# Altium footprint library TDR_PCB_1.PcbLib: 14 footprints
Each footprint in its own frame and in the unit in brackets; x right, y up, seen from the top. Pads: shape width x height; smd on the part's side, far side on the other; paste and mask are expansions set on the pad; w line width, h text height; cw(c..) or ccw(c..) is an arc to the next point about the centre after c.
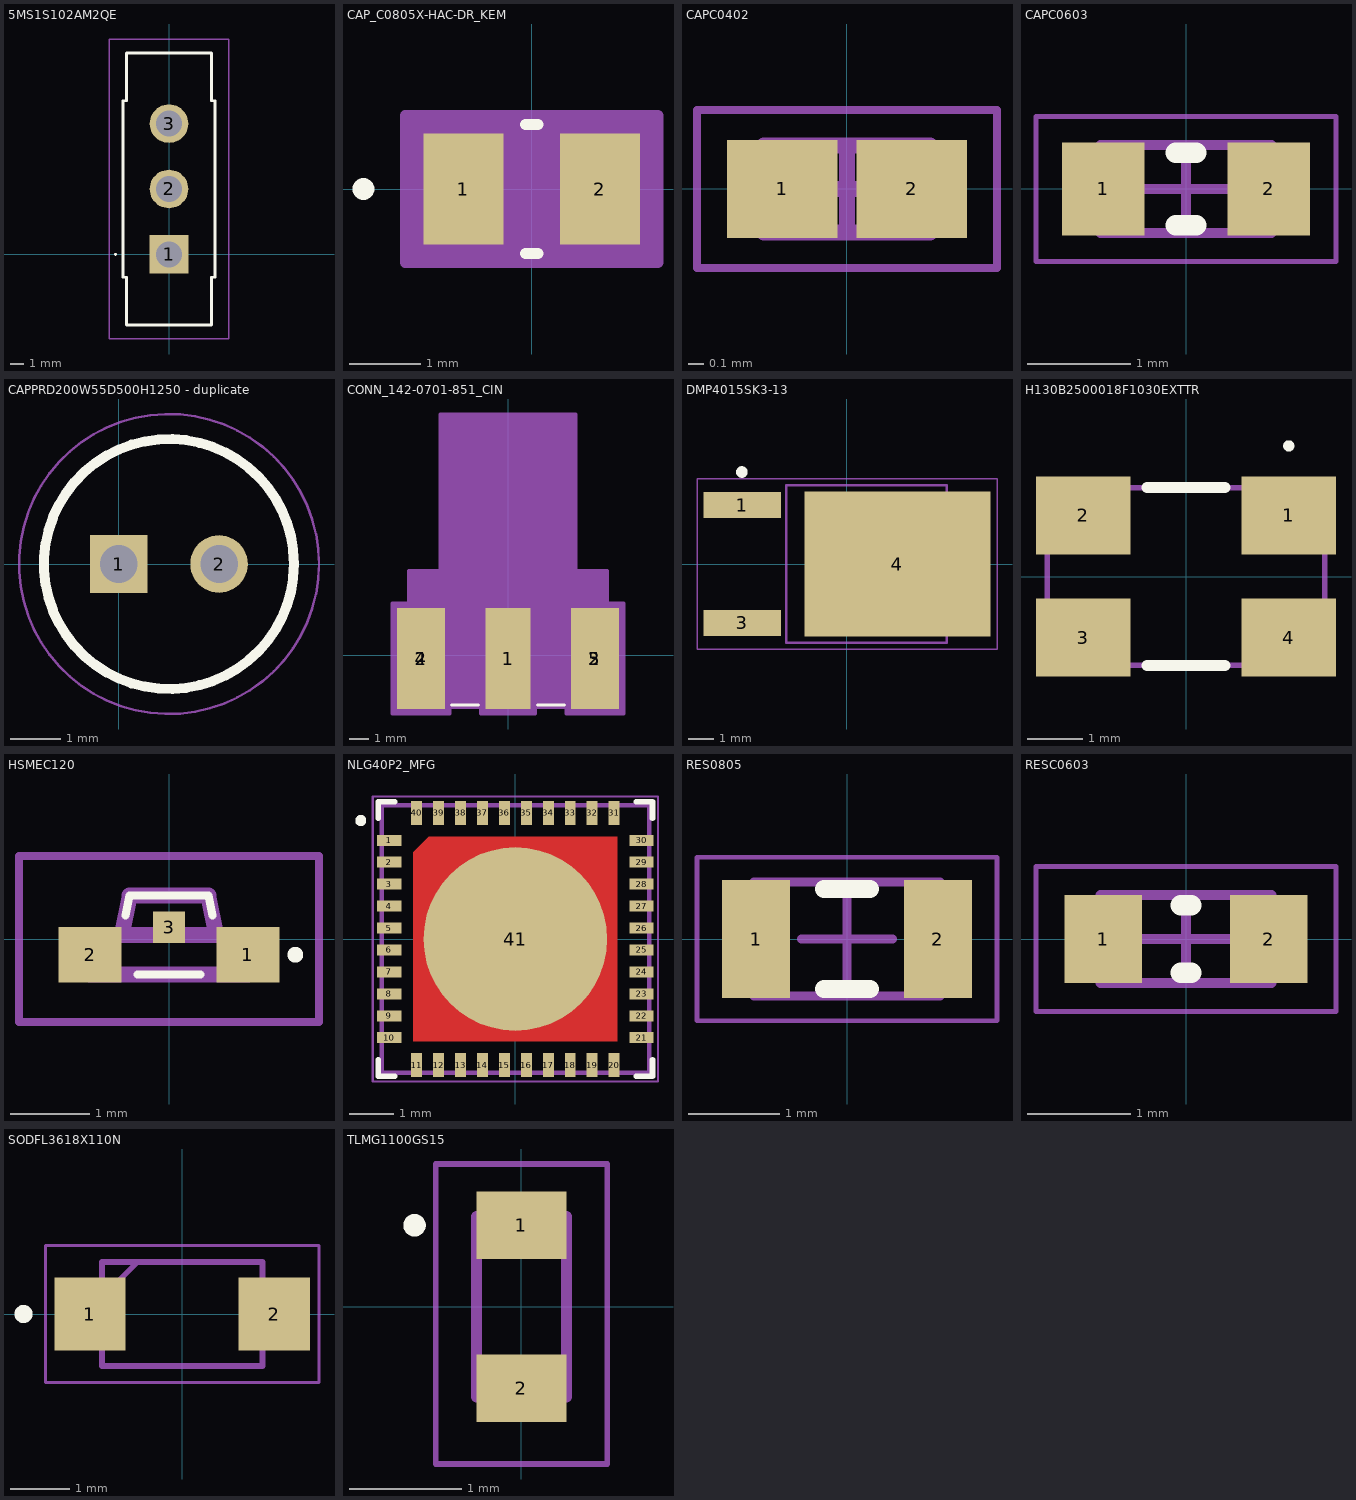
[diagram p0: the footprints below, top view; thin cyan lines are the x and y axes]

## 5MS1S102AM2QE [mm]
pads (3):
  rect 2.775x2.775 hole 1.85: 1(0,0)
  round 2.775 hole 1.85: 2(0,4.7) 3(0,9.4)
Top Overlay:
  lines w0.1: -3.9,0 cw(c-3.85,0) -3.8,0 cw(c-3.85,0) -3.9,0
  lines w0.2: -3.3,-1.65 -3.05,-1.65 -3.05,-5.08 3.05,-5.08 3.05,-1.65 3.3,-1.65 3.3,11.05 3.05,11.05 3.05,14.48 0,14.48 -3.05,14.48 -3.05,11.05 -3.3,11.05 -3.3,-1.65
Top Courtyard:
  lines w0.1: -3.3,-1.65 -3.05,-1.65 -3.05,-5.08 3.05,-5.08 3.05,-1.65 3.3,-1.65 3.3,11.05 3.05,11.05 3.05,14.48 0,14.48 -3.05,14.48 -3.05,11.05 -3.3,11.05 -3.3,-1.65
Mechanical 20:
  lines w0.1: -4.3,-6.08 -4.3,15.48 4.3,15.48 4.3,-6.08 -4.3,-6.08
3D body "switch_5ms1s102am2qes.stp": height 12.08, standoff -5.95, extent -3.3,-1.65 3.3,11.05

## CAP_C0805X-HAC-DR_KEM [mil]
pads (2):
  rect 44x61 smd paste+0 mask+0: 1(-37.5,0) 2(37.5,0)
Top Overlay:
  circle w6: c-92.5,0 r3
  lines w6: -3.39,-35.5 3.39,-35.5 ; -3.39,35.5 3.39,35.5
Top 3D Body:
  circle w1: c-32.5,0 r3
  lines w1: -45.5,-30.5 -45.5,30.5 ; -45.5,-30.5 -15.5,-30.5 -15.5,30.5 -45.5,30.5 ; -45.5,-30.5 45.5,-30.5 ; -45.5,-30.5 -45.5,30.5 ; -45.5,30.5 45.5,30.5 ; 45.5,-30.5 15.5,-30.5 15.5,30.5 45.5,30.5 ; 45.5,-30.5 45.5,30.5 ; 45.5,-30.5 45.5,30.5
Top Courtyard:
  region: 69.5,-40.5 -69.5,-40.5 -69.5,40.5 69.5,40.5
  lines w6: -69.5,-40.5 -69.5,40.5 69.5,40.5 69.5,-40.5 -69.5,-40.5
3D body "CAP_C0805X-HAC-DR_KEM.step": height 39.02, standoff 0, extent -45.51,-30.51 45.51,30.51

## CAPC0402 [mm] "Chip Capacitor, 2-Leads, Body 1,00x0,50mm, IPC Medium Density"
height 0.6
pads (2):
  rect 0.7x0.62 smd: 1(-0.41,0) 2(0.41,0)
Top Assembly:
  lines w0.1: -0.525,-0.275 0.525,-0.275 0.525,0.275 -0.525,0.275 -0.525,-0.275
Top Courtyard:
  lines w0.05: -0.95,-0.5 0.95,-0.5 0.95,0.5 -0.95,0.5 -0.95,-0.5
  lines w0.1: -0.275,0 0.275,0 ; 0,-0.275 0,0.275
3D body: height 0.6, standoff 0, extent 0.225,-0.275 0.525,0.275
3D body: height 0.6, standoff 0, extent -0.525,-0.275 -0.225,0.275
3D body: height 0.6, standoff 0, extent -0.225,-0.275 0.225,0.275

## CAPC0603 [mm] "Chip Capacitor, 2-Leads, Body 1,60x0,80mm, IPC Medium Density"
height 0.5
pads (2):
  rect 0.8x0.9 smd: 1(-0.8,0) 2(0.8,0)
Top Overlay:
  lines w0.2: -0.1,-0.35 0.1,-0.35 ; -0.1,0.35 0.1,0.35
Top Assembly:
  lines w0.1: -0.825,-0.425 0.825,-0.425 0.825,0.425 -0.825,0.425 -0.825,-0.425
Top Courtyard:
  lines w0.05: -1.45,-0.7 1.45,-0.7 1.45,0.7 -1.45,0.7 -1.45,-0.7
  lines w0.1: -0.425,0 0.425,0 ; 0,-0.425 0,0.425
3D body: height 0.5, standoff 0, extent 0.525,-0.425 0.825,0.425
3D body: height 0.5, standoff 0, extent -0.825,-0.425 -0.525,0.425
3D body: height 0.5, standoff 0, extent -0.525,-0.425 0.525,0.425

## CAPPRD200W55D500H1250 - duplicate [mm]
pads (2):
  rect 1.15x1.15 / inner round 1.15 / far side rect 1.15x1.15 hole 0.75: 1(0,0)
  round 1.15 hole 0.75: 2(2,0)
Top Overlay:
  circle w0.2: c1,0 r2.5
Top Courtyard:
  circle w0.1: c1,0 r2.5
Mechanical 20:
  circle w0.05: c1,0 r3
3D body "ESK107M025AC3AA.stp": height 19.5, standoff -13.01, extent -1.812,-2.672 3.678,2.828

## CONN_142-0701-851_CIN [mil]
pads (7):
  rect 90x200 smd paste+0 mask+0: 1(0,-6.5)
  rect 95x200 smd paste+0 mask+0: 2(-172.5,-6.5) 3(172.5,-6.5)
  rect 95x200 smd far side paste+0 mask+0: 2(-172.5,-6.5) 2(172.5,-6.5)
  round 60 smd paste-100 mask-100: 4(-172.5,-6.5) 5(172.5,-6.5)
Top Overlay:
  lines w6: -111.9,-98.5 -58.1,-98.5 ; 58.1,-98.5 111.9,-98.5
Mechanical 1:
  lines w1: -220,93.5 220,93.5
Top 3D Body:
  lines w1: -125,158.5 -125,468.5 125,468.5 125,158.5 ; -187.5,-93.5 187.5,-93.5 187.5,158.5 -187.5,158.5 -187.5,-93.5
Top Courtyard:
  region: 197.5,103.5 197.5,168.5 135,168.5 135,478.5 -135,478.5 -135,168.5 -197.5,168.5 -197.5,103.5 -230,103.5 -230,-116.5 -115,-116.5 -115,-103.5 -55,-103.5 -55,-116.5 55,-116.5 55,-103.5 115,-103.5 115,-116.5 230,-116.5 230,103.5
  lines w6: -230,-116.5 -230,103.5 -197.5,103.5 -197.5,168.5 -135,168.5 -135,478.5 135,478.5 135,168.5 197.5,168.5 197.5,103.5 230,103.5 230,-116.5 115,-116.5 115,-103.5 55,-103.5 55,-116.5 -55,-116.5 -55,-103.5 -115,-103.5 -115,-116.5 -230,-116.5
3D body "User Library-SMA_142-0701-851_ASSY.STEP": height 156, standoff -156, extent -187.5,-100 187.5,462

## DMP4015SK3-13 [mm] "D-PAK, 3-Pads, Body 6,20x6,41mm (max), IPC Medium Density"
height 2.29
pads (3):
  rect 3x1 smd: 1(-4.05,2.28) 3(-4.05,-2.28)
  rect 7.2x5.6 smd: 4(1.95,0)
Top Overlay:
  circle w0.25: c-4.064,3.556 r0.1
Top Assembly:
  lines w0.1: -2.35,-3.05 -2.35,3.05 3.85,3.05 3.85,-3.05 -2.35,-3.05
Top Courtyard:
  lines w0.05: -5.8,-3.3 -5.8,3.3 5.8,3.3 5.8,-3.3 -5.8,-3.3
  lines w0.1: -0.5,0 0.5,0 ; 0,-0.5 0,0.5
3D body: height 2.29, standoff 0.53, extent -2.35,-3.05 3.85,3.05

## H130B2500018F1030EXTTR [mm]
pads (4):
  rect 1.7x1.4 smd: 1(1.85,1.1) 2(-1.85,1.1) 3(-1.85,-1.1) 4(1.85,-1.1)
Top Overlay:
  lines w0.1: 1.85,2.3 ccw(c1.85,2.35) 1.85,2.4 ccw(c1.85,2.35) 1.85,2.3
  lines w0.2: -0.7,-1.6 0.7,-1.6 ; -0.7,1.6 0.7,1.6
Top Courtyard:
  lines w0.1: -2.5,-1.6 -2.5,1.6 2.5,1.6 2.5,-1.6 -2.5,-1.6
3D body "H130B-25.000-18-F-1030-EXT-TR.stp": height 1, standoff 0, extent -2.56,-1.66 2.56,1.66

## HSMEC120 [mm]
pads (3):
  rect 0.8x0.7 smd: 1(1,-0.2) 2(-1,-0.2)
  rect 0.4x0.4 smd: 3(0,0.15)
Top Overlay:
  lines w0.1: -0.55,0.3 -0.5,0.55 0.5,0.55 0.55,0.3 ; -0.4,-0.45 0.4,-0.45 ; 1.6,-0.25 ccw(c1.6,-0.2) 1.6,-0.15 ccw(c1.6,-0.2) 1.6,-0.25
Top Courtyard:
  lines w0.2: -0.6,0.05 -0.5,0.55 0.5,0.55 0.6,0.05 ; -1,-0.45 1,-0.45 1,0.05 -1,0.05 -1,-0.45
Mechanical 20:
  lines w0.1: -1.9,-1.05 1.9,-1.05 1.9,1.05 -1.9,1.05 -1.9,-1.05

## NLG40P2_MFG [mm] "Recommended Land Pattern"
height 1
pads (41):
  rect 0.55x0.25 smd paste+0 mask+0: 1(-2.875,2.25) 2(-2.875,1.75) 3(-2.875,1.25) 4(-2.875,0.75) 5(-2.875,0.25) 6(-2.875,-0.25) 7(-2.875,-0.75) 8(-2.875,-1.25) 9(-2.875,-1.75) 10(-2.875,-2.25) 21(2.875,-2.25) 22(2.875,-1.75) 23(2.875,-1.25) 24(2.875,-0.75) 25(2.875,-0.25) 26(2.875,0.25) 27(2.875,0.75) 28(2.875,1.25) 29(2.875,1.75) 30(2.875,2.25)
  rect 0.25x0.55 smd paste+0 mask+0: 11(-2.25,-2.875) 12(-1.75,-2.875) 13(-1.25,-2.875) 14(-0.75,-2.875) 15(-0.25,-2.875) 16(0.25,-2.875) 17(0.75,-2.875) 18(1.25,-2.875) 19(1.75,-2.875) 20(2.25,-2.875) 31(2.25,2.875) 32(1.75,2.875) 33(1.25,2.875) 34(0.75,2.875) 35(0.25,2.875) 36(-0.25,2.875) 37(-0.75,2.875) 38(-1.25,2.875) 39(-1.75,2.875) 40(-2.25,2.875)
  round 4.185 smd paste+0 mask+0: 41(0,0)
Top Layer:
  region: -1.975,2.325 2.325,2.325 2.325,-2.325 -2.325,-2.325 -2.325,1.975
Top Overlay:
  circle w0.125: c-3.525,2.7 r0.062
  lines w0.127: -3.125,-2.75 -3.125,-3.125 -2.75,-3.125 ; -3.125,2.75 -3.125,3.125 -2.75,3.125 ; 2.75,-3.125 3.125,-3.125 3.125,-2.75 ; 2.75,3.125 3.125,3.125 3.125,2.75
Top Assembly:
  lines w0.1: -3.05,-3.05 -3.05,3.05 3.05,3.05 3.05,-3.05 -3.05,-3.05
Top Designator:
  text ".Designator" at 0,0 h1
Top Courtyard:
  lines w0.05: -3.25,-3.25 -3.25,3.25 3.25,3.25 3.25,-3.25 -3.25,-3.25
Top Component Center:
  lines w0.1: -0.5,0 0.5,0 ; 0,-0.5 0,0.5
3D body "QFN50P600X600X100-41_NLG40P2.STEP": height 1, standoff 0, extent -3,-3 3,3

## RES0805 [mm] "Chip Resistor, 2-Leads, Body 2,00x1,23mm, IPC Medium Density"
height 0.6
pads (2):
  rect 0.75x1.3 smd: 1(-1,0) 2(1,0)
Top Overlay:
  lines w0.2: -0.25,-0.55 0.25,-0.55 ; -0.25,0.55 0.25,0.55
Top 3D Body:
  lines w0.1: -1.025,-0.625 1.025,-0.625 1.025,0.625 -1.025,0.625 -1.025,-0.625
Top Courtyard:
  lines w0.05: -1.65,-0.9 1.65,-0.9 1.65,0.9 -1.65,0.9 -1.65,-0.9
  lines w0.1: -0.5,0 0.5,0 ; 0,-0.5 0,0.5
3D body: height 0.6, standoff 0, extent 0.725,-0.625 1.025,0.625
3D body: height 0.6, standoff 0, extent -1.025,-0.625 -0.725,0.625
3D body: height 0.6, standoff 0, extent -0.725,-0.625 0.725,0.625

## RESC0603 [mm] "Chip Resistor, 2-Leads, Body 1,60x0,80mm, IPC Medium Density"
height 0.5
pads (2):
  rect 0.75x0.85 smd: 1(-0.8,0) 2(0.8,0)
Top Overlay:
  lines w0.2: -0.05,-0.325 0.05,-0.325 ; -0.05,0.325 0.05,0.325
Top Assembly:
  lines w0.1: -0.825,-0.425 -0.825,0.425 0.825,0.425 0.825,-0.425 -0.825,-0.425
Top Courtyard:
  lines w0.05: -1.45,-0.7 -1.45,0.7 1.45,0.7 1.45,-0.7 -1.45,-0.7
  lines w0.1: -0.425,0 0.425,0 ; 0,-0.425 0,0.425
3D body: height 0.5, standoff 0, extent -0.525,-0.425 0.525,0.425
3D body: height 0.5, standoff 0, extent -0.825,-0.425 -0.525,0.425
3D body: height 0.5, standoff 0, extent 0.525,-0.425 0.825,0.425

## SODFL3618X110N [mm]
pads (2):
  rect 1.2x1.22 smd: 1(-1.55,0) 2(1.55,0)
Top Overlay:
  circle w0.152: c-2.667,0 r0.076
Top 3D Body:
  lines w0.1: -1.35,0.275 -0.75,0.875 ; -1.35,-0.875 1.35,-0.875 1.35,0.875 -1.35,0.875 -1.35,-0.875
Top Courtyard:
  lines w0.05: -2.3,-1.15 2.3,-1.15 2.3,1.15 -2.3,1.15 -2.3,-1.15
3D body "SMF5.0A-T13.stp": height 1.1, standoff 0, extent -1.825,-0.875 1.825,0.875

## TLMG1100GS15 [mm]
pads (2):
  rect 0.8x0.6 smd: 1(0,0.725) 2(0,-0.725)
Top Overlay:
  lines w0.1: -1,0.725 ccw(c-0.95,0.725) -0.9,0.725 ccw(c-0.95,0.725) -1,0.725
Top Courtyard:
  lines w0.05: -0.762,-1.397 -0.762,1.27 0.762,1.27 0.762,-1.397 -0.762,-1.397
  lines w0.1: -0.4,-0.8 -0.4,0.8 0.4,0.8 0.4,-0.8 -0.4,-0.8
3D body "TLMG1100-GS15.stp": height 0.75, standoff 0, extent -0.4,-0.8 0.4,0.8